# Altium footprint library 2004850210.PcbLib: 1 footprints
Each footprint in its own frame and in the unit in brackets; x right, y up, seen from the top. Pads: shape width x height; smd on the part's side, far side on the other; paste and mask are expansions set on the pad; w line width, h text height; cw(c..) or ccw(c..) is an arc to the next point about the centre after c.
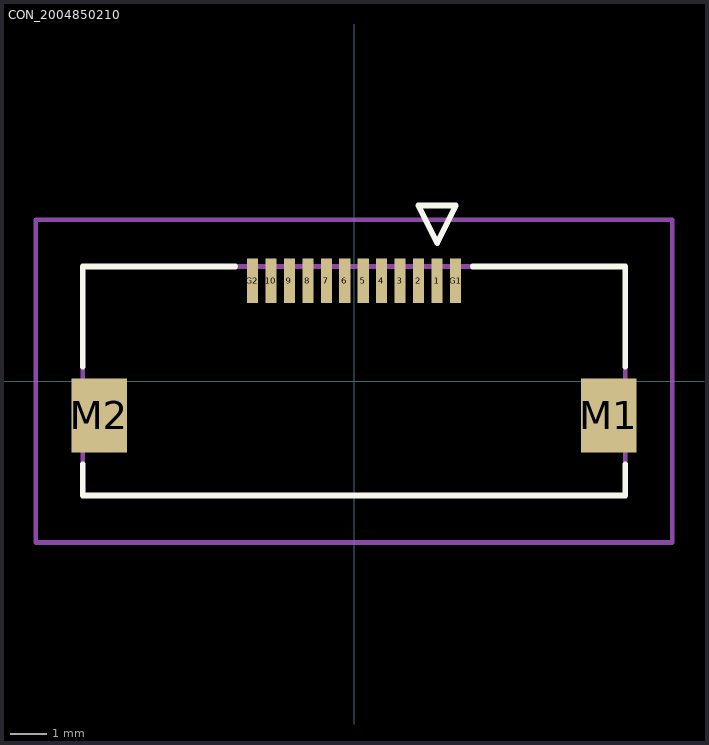
[diagram p0: the footprint, top view; thin cyan lines are the x and y axes]

## CON_2004850210 [mm]
pads (14):
  rect 0.3x1.2 smd paste+0 mask+0.076: 1(2.25,2.72) 2(1.75,2.72) 3(1.25,2.72) 4(0.75,2.72) 5(0.25,2.72) 6(-0.25,2.72) 7(-0.75,2.72) 8(-1.25,2.72) 9(-1.75,2.72) 10(-2.25,2.72) G1(2.75,2.72) G2(-2.75,2.72)
  rect 1.5x2 smd paste+0 mask+0.076: M1(6.9,-0.93) M2(-6.9,-0.93)
Top Overlay:
  lines w0.152: -7.345,-2.25 -7.345,-3.1 7.345,-3.1 7.345,-2.25 ; -7.345,0.39 -7.345,3.1 -3.22,3.1 ; 3.22,3.1 7.345,3.1 7.345,0.39 ; 1.742,4.752 2.758,4.752 2.25,3.736 1.742,4.752
Mechanical 13:
  lines w0.127: -7.345,-3.1 7.345,-3.1 7.345,3.1 -7.345,3.1 -7.345,-3.1
Mechanical 15:
  lines w0.127: -8.615,-4.37 -8.615,4.37 8.615,4.37 8.615,-4.37 -8.615,-4.37
3D body "2004850210.stp": height 4.48, standoff 0.02, extent -7.345,-3.125 7.345,3.075